# Altium schematic symbol library Crystal.SchLib: 10 symbols
Pins are listed as number, name and electrical type; pins without a type are passive.

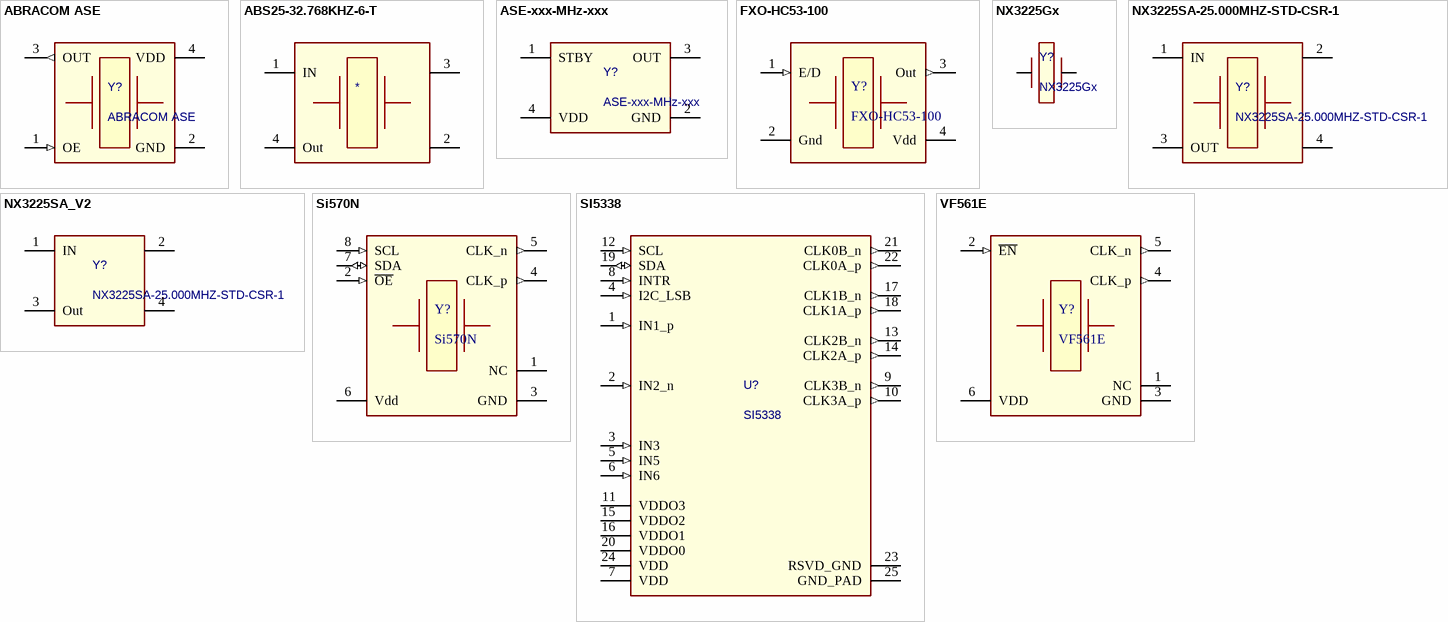
[diagram p0: symbols ABRACOM ASE to VF561E]

## ABRACOM ASE
designator Y?
3.3V CMOS SMD Crystal Oscillator.
footprint CRYSTAL (NX3225SA)
pins: 1 OE (in), 2 GND (power), 3 OUT (out), 4 VDD (power)

## ABS25-32.768KHZ-6-T
designator *  (value not drawn)
footprint CRYSTAL (XTAL_ABS25-32.768KHZ-6-T)
pins: 1 IN, 2, 3, 4 Out

## ASE-xxx-MHz-xxx
designator Y?
Manufacturer: ABRACOM; Part number: ASE-25.000MHZ-LC-T
footprint CRYSTAL (NX3225SA)
pins: 1 STBY, 2 GND, 3 OUT, 4 VDD

## FXO-HC53-100
designator Y?
footprint CRYSTAL (FXO-HC53-100)
pins: 1 E/D (in), 2 Gnd (power), 3 Out (out), 4 Vdd (power)

## NX3225Gx
designator Y?
A small surface-mount type crystal unit. Dimentions 3.2*2.5*0.8. Load capacitance 8pF.; Manufacture: NIHON DEMPA KOGYO (NDK); Part number: NX3225GD-8MHZ-STD-CRA-3
footprint Crystal (NX3225GD) (Crystal, 2-Leads, Body 3,15x2,25mm, IPC Medium Density)
pins: 1, 2

## NX3225SA-25.000MHZ-STD-CSR-1
designator Y?
footprint CRYSTAL (NX3225SA)
pins: 1 IN, 2, 3 OUT, 4

## NX3225SA_V2
designator Y?, comment NX3225SA-25.000MHZ-STD-CSR-1
Manufacturer: NDK; Part number: NX3225SA-25.000MHZ-STD-CSR-1
footprint CRYSTAL (NX3225SA)
pins: 1 IN, 2, 3 Out, 4

## Si570N
designator Y?
footprint Si57x (Chip Array, Flat, 8-Leads, Pitch 2.54mm,  Body 7.00x5.00mm,  IPC Medium Density)
pins: 1 NC, 2 ~{OE} (in), 3 GND (power), 4 CLK_p (out), 5 CLK_n (out), 6 Vdd (power), 7 SDA (io), 8 SCL (in)

## SI5338
designator U?
I2C-PROGRAMMABLE ANY-FREQUENCY, ANY-OUTPUT / QUAD CLOCK GENERATOR
footprint VQFN24 (RGE0024H, TLC6946)
pins: 1 IN1_p (in) "These pins are used as the main differential clock input or as the XTAL input.", 2 IN2_n (in) "These pins are used as the main differential clock input or as the XTAL input.", 3 IN3 (in) "Multifunctional pin.", 4 I2C_LSB (in), 5 IN5 (in) "These pins can be used as a differential feedback input in zero delay mode or as a secondary clock input.", 6 IN6 (in) "These pins can be used as a differential feedback input in zero delay mode or as a secondary clock input.", 7 VDD (power) "Device Power Supply, Provides power to the input section and clock distribution section. Use a power supply voltage that corresponds to the switching levels of clock input(s) (i.e. 1.8V, 2.5V, or 3.3V).", 8 INTR (in) "Interrupt. A typical pullup resistor of 1–4 k is used on this pin.", 9 CLK3B_n (out) "Output – Positive Terminal", 10 CLK3A_p (out) "Output – Negative Terminal", 11 VDDO3 (power) "Output Power Supply..", 12 SCL (in), 13 CLK2B_n (out) "Output – Positive Terminal", 14 CLK2A_p (out) "Output – Negative Terminal", 15 VDDO2 (power) "Output Power Supply.", 16 VDDO1 (power) "Output Power Supply.", 17 CLK1B_n (out) "Output – Positive Terminal", 18 CLK1A_p (out) "Output – Negative Terminal", 19 SDA (io), 20 VDDO0 (power) "Output Power Supply – OUT7, OUT8 Output bank OUT5 – OUT8 regulator power supply (apply power if any of OUT5 – OUT8 are needed)", 21 CLK0B_n (out) "Output – Positive Terminal", 22 CLK0A_p (out) "Output – Negative Terminal", 23 RSVD_GND (power) "Power supply ground.", 24 VDD (power) "Device Power Supply, Provides power to the input section and clock distribution section. Use a power supply voltage that corresponds to the switching levels of clock input(s) (i.e. 1.8V, 2.5V, or 3.3V).", 25 GND_PAD (power) "Power supply ground and thermal relief."

## VF561E
designator Y?
footprint VF561E (CFP, 6-Leads, Body 13.97x8.89mm (max), Pitch 2.54mm, IPC Medium Density)
pins: 1 NC, 2 ~{EN} (in), 3 GND (power), 4 CLK_p (out), 5 CLK_n (out), 6 VDD (power)